# Altium schematic symbol library diods.SchLib: 16 symbols
Pins are listed as number, name and electrical type; pins without a type are passive.

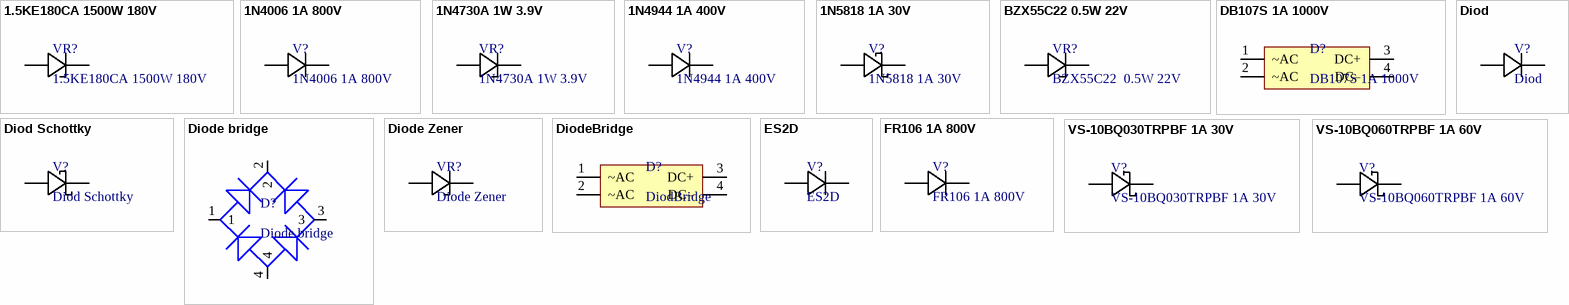
[diagram p0: symbols 1.5KE180CA 1500W 180V to VS-10BQ060TRPBF 1A 60V]

## 1.5KE180CA 1500W 180V
designator VR?
Transient Voltage Suppressor
footprint DO201 Hor (Horizontal THT Zener Diod)
footprint DO201 Ver (Horizontal THT Zener Diod)
pins: 1, 2

## 1N4006 1A 800V
designator V?
Diod
footprint DO41 (Horizontal THT Diod)
pins: 1, 2

## 1N4730A 1W 3.9V
designator VR?
Diode Zener
footprint DO41 Hor (Horizontal THT Diod)
pins: 1, 2

## 1N4944 1A 400V
designator V?
Diod Fast
footprint DO41 Hor (Horizontal THT Diod)
footprint DO41 Ver (Vertical  THT Diod)
pins: 1, 2

## 1N5818 1A 30V
designator V?
Diod Schottky
footprint DO41 Hor (Horizontal THT Diod)
footprint DO41 Ver (Vertical  THT Diod)
pins: 1, 2

## BZX55C22 0.5W 22V
designator VR?, comment BZX55C22  0.5W 22V
Diode Zener
footprint DO35 Hor (Horizontal THT Zener Diod)
footprint DO35 Ver (Vertical THT Diod)
pins: 1, 2

## DB107S 1A 1000V
designator D?
Diode bridge
footprint DBS (SMD Diode bridge)
pins: 1 ~AC, 2 ~AC, 3 DC+, 4 DC–

## Diod
designator V?
pins: 1, 2

## Diod Schottky
designator V?
pins: 1, 2

## Diode bridge
designator D?
pins: 1 "AC1", 2 "DC+", 3 "AC2", 4 "DC-"

## Diode Zener
designator VR?
pins: 1, 2

## DiodeBridge
designator D?, comment DiodBridge
Diode bridge
pins: 1 ~AC, 2 ~AC, 3 DC+, 4 DC–

## ES2D
designator V?
Ultrafast Diode
footprint SMB (SMD Diode)
pins: 1, 2

## FR106 1A 800V
designator V?
Diode
footprint do204al
pins: 1, 2

## VS-10BQ030TRPBF 1A 30V
designator V?
Diode Schottky
footprint SMB (SMD Diode)
pins: 1, 2

## VS-10BQ060TRPBF 1A 60V
designator V?
Diode Schottky
footprint SMB (SMD Diode)
pins: 1, 2